# Altium integrated library Free Documents.IntLib: 1 symbol
Pins are listed as number, name and electrical type; pins without a type are passive.

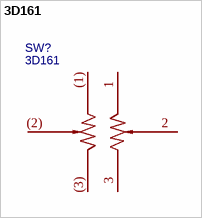
[diagram p0: symbol 3D161]

## 3D161
designator SW?
BOM_Manufacturer: HRO; Contributor: LCSC; BOM_Supplier: LCSC; BOM_Manufacturer Part: 3D161; BOM_Supplier Part: C92593; BOM_JLCPCB Part Class: Extended Part; spicePre: S; spiceSymbolName: 3D161
footprint SW-TH_3D161
pins: 1, 2, 3, (1), (2), (3)